# Altium footprint library TE_282837-4.PcbLib: 1 footprints
Each footprint in its own frame and in the unit in brackets; x right, y up, seen from the top. Pads: shape width x height; smd on the part's side, far side on the other; paste and mask are expansions set on the pad; w line width, h text height; cw(c..) or ccw(c..) is an arc to the next point about the centre after c.
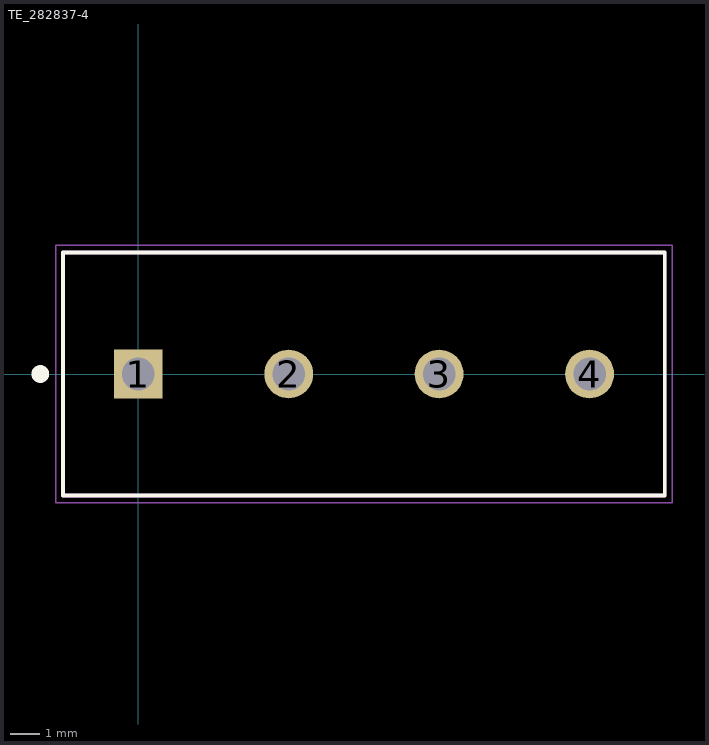
[diagram p0: the footprint, top view; thin cyan lines are the x and y axes]

## TE_282837-4 [mm]
pads (4):
  rect 1.65x1.65 hole 1.1: 1(0,0)
  round 1.65 hole 1.1: 2(5.08,0) 3(10.16,0) 4(15.24,0)
Top Overlay:
  circle w0.3: c-3.31,0 r0.15
  lines w0.127: -2.54,-4.1 -2.54,4.1 17.78,4.1 17.78,-4.1 -2.54,-4.1
Mechanical 13:
  circle w0.3: c0,0 r0.15
  lines w0.127: -2.54,-4.1 -2.54,4.1 17.78,4.1 17.78,-4.1 -2.54,-4.1
Mechanical 15:
  lines w0.05: -2.79,-4.35 18.03,-4.35 18.03,4.35 -2.79,4.35 -2.79,-4.35
3D body "step_temp.STEP": height 7.25, standoff -6.25, extent -2.794,-4.064 18.126,4.136